# EAGLE library part RCV420 (library burr-brown)
Precision 4mA to 20mA CURRENT LOOP RECEIVER Source: http://focus.ti.com/lit/ds/symlink/rcv420.pdf
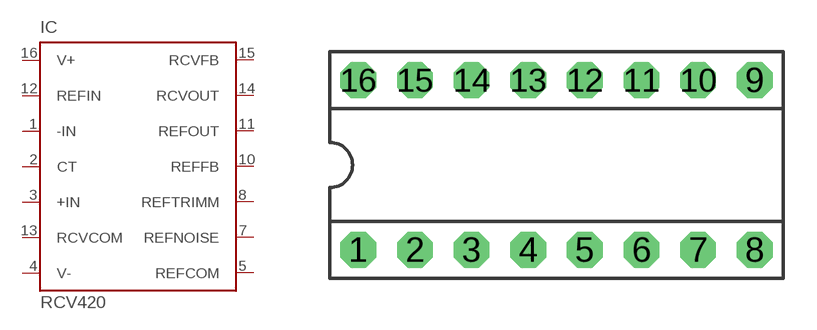
[diagram p2: symbol with the pads of DIL16; footprint DIL16]

Designator prefix IC

## RCV420P (MF: TEXAS INSTRUMENTS; MPN: RCV420JP; OC_FARNELL: 1212342; OC_NEWARK: 60K6765)  [DIL16]
1  -IN  in
2  CT  in
3  +IN  in
4  V-  in
5  REFCOM  in
7  REFNOISE  in
8  REFTRIMM  in
10  REFFB  in
11  REFOUT  out
12  REFIN  in
13  RCVCOM  in
14  RCVOUT  out
15  RCVFB  in
16  V+  in

## Footprint DIL16 (pad centres in mm)
Dual In Line
drill 0.813 pad 1.6 octagon: 1 -8.89,-3.81; 2 -6.35,-3.81; 3 -3.81,-3.81; 4 -1.27,-3.81; 5 1.27,-3.81; 6 3.81,-3.81; 7 6.35,-3.81; 8 8.89,-3.81; 9 8.89,3.81; 10 6.35,3.81; 11 3.81,3.81; 12 1.27,3.81; 13 -1.27,3.81; 14 -3.81,3.81; 15 -6.35,3.81; 16 -8.89,3.81